# EAGLE library part MICROSD (library UavComp)
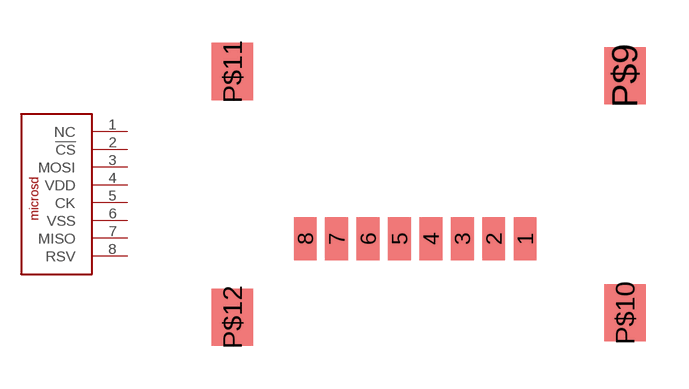
[diagram p3: symbol with the pads of MICROSD; footprint MICROSD]

Designator prefix SD

## MICROSD  [MICROSD]
1  NC
2  !CS!
3  MOSI
4  VDD
5  CK
6  VSS
7  MISO
8  RSV

## Footprint MICROSD (pad centres in mm)
smd 0.8 x 1.5: 1 3.3,0; 2 2.2,0; 3 1.1,0; 4 0,0; 5 -1.1,0; 6 -2.2,0; 7 -3.3,0; 8 -4.4,0
smd 1.45 x 2: P$9 6.8,5.7; P$10 6.8,-2.6; P$11 -6.95,5.85; P$12 -6.95,-2.75